# Altium integrated library IC_Sensor.IntLib: 3 symbols
Pins are listed as number, name and electrical type; pins without a type are passive.

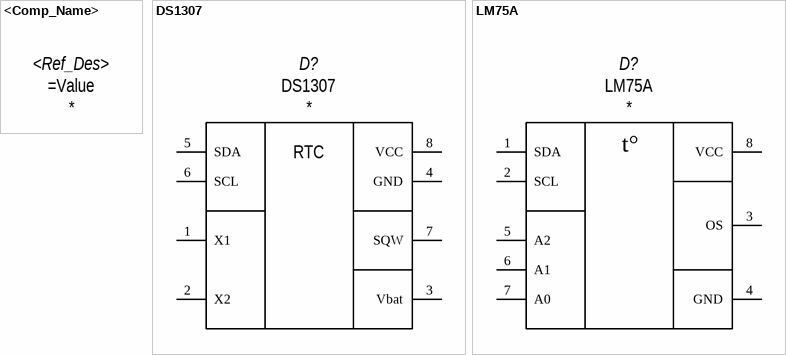
[diagram p0: symbols <Comp_Name> to LM75A]

## <Comp_Name>
designator <Ref_Des>
<element_assignmen>; Manufacturer: *; HelpURL: *; Value: =Value

## DS1307
designator D?  value DS1307
Real-time clock (RTC); Manufacturer: *; HelpURL: https://static.chipdip.ru/lib/041/DOC000041914.pdf
footprint SO8 (SOT96-1 Package, 8 pin, Pitch 1.27mm)
pins: 1 X1, 2 X2, 3 Vbat, 4 GND, 5 SDA, 6 SCL, 7 SQW, 8 VCC
text: RTC

## LM75A
designator D?  value LM75A
Digital temperature sensor and thermal watchdog; Manufacturer: *; HelpURL: https://static.chipdip.ru/lib/301/DOC000301694.pdf
footprint SO8 (SOT96-1 Package, 8 pin, Pitch 1.27mm)
pins: 1 SDA, 2 SCL, 3 OS, 4 GND, 5 A2, 6 A1, 7 A0, 8 VCC
text: t°